# Altium schematic symbol library WCAP-ATLI.SchLib: 162 symbols (part 3 of 4)
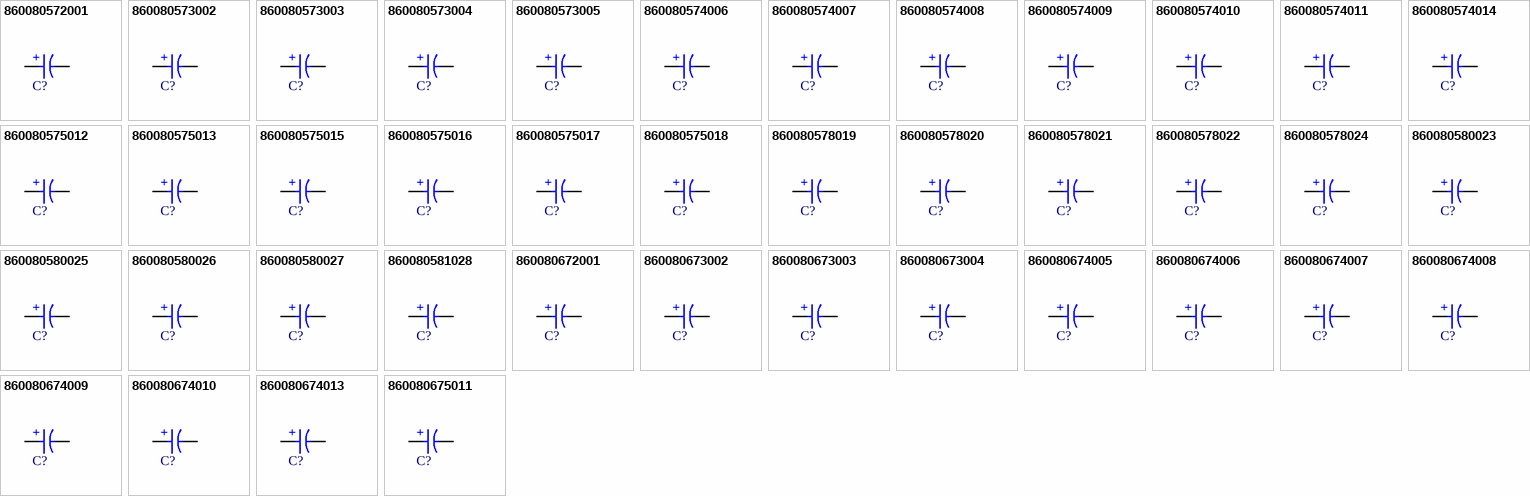
[diagram p6: symbols 860080572001 to 860080675011]

## 860080580023
designator C?, comment 1200µF  (value not drawn)
WCAP-ATLI Aluminum Electrolytic Capacitor, Radial, THT, D16 x H25mm, 1200µF, 35V; Manufacturer Part Number: 860080580023; Manufacturer: Wurth Elektronik; Capacitance Tolerance: +/-20%; Dissipation Factor: 9%; Endurance: 5000h; Leakage Current: 420µA; Ripple Current: 3150mA; Technical Reference: ATEK250122M035DSPAEE000; Category: Aluminum Electrolytic Capacitors; Match Code: WCAP-ATLI; ComponentLink1Description: Website Link; ComponentLink1URL: https://www.we-online.com/redexpert/article/860080580023?ad; ComponentLink2Description: Datasheet Link; ComponentLink2URL: https://www.we-online.com/redexpert/spec/860080580023?ad; Mount: Through Hole; Operating Temperature Max: 105°C; Operating Temperature Min: -55°C; Packaging: Ammo Pack; Height: 25mm; Diameter: 16mm; Capacitance: 1200µF; Rated Voltage (DC): 35V
footprint WCAP-ATLI_D16H25
simulation model 860080580023_1.2mF
pins: 1 P, 2 N
text: +

## 860080580025
designator C?, comment 1500µF  (value not drawn)
WCAP-ATLI Aluminum Electrolytic Capacitor, Radial, THT, D16 x H31.5mm, 1500µF, 35V; Manufacturer Part Number: 860080580025; Manufacturer: Wurth Elektronik; Capacitance Tolerance: +/-20%; Dissipation Factor: 9%; Endurance: 5000h; Leakage Current: 525µA; Ripple Current: 3600mA; Technical Reference: ATEK315152M035DSPADE000; Category: Aluminum Electrolytic Capacitors; Match Code: WCAP-ATLI; ComponentLink1Description: Website Link; ComponentLink1URL: https://www.we-online.com/redexpert/article/860080580025?ad; ComponentLink2Description: Datasheet Link; ComponentLink2URL: https://www.we-online.com/redexpert/spec/860080580025?ad; Mount: Through Hole; Operating Temperature Max: 105°C; Operating Temperature Min: -55°C; Packaging: Ammo Pack; Height: 31.5mm; Diameter: 16mm; Capacitance: 1500µF; Rated Voltage (DC): 35V
footprint WCAP-ATLI_D16H31.5
simulation model 860080580025_1.5mF
pins: 1 P, 2 N
text: +

## 860080580026
designator C?, comment 1800µF  (value not drawn)
WCAP-ATLI Aluminum Electrolytic Capacitor, Radial, THT, D16 x H31.5mm, 1800µF, 35V; Manufacturer Part Number: 860080580026; Manufacturer: Wurth Elektronik; Capacitance Tolerance: +/-20%; Dissipation Factor: 9%; Endurance: 5000h; Leakage Current: 630µA; Ripple Current: 3670mA; Technical Reference: ATEK315182M035DSPADE000; Category: Aluminum Electrolytic Capacitors; Match Code: WCAP-ATLI; ComponentLink1Description: Website Link; ComponentLink1URL: https://www.we-online.com/redexpert/article/860080580026?ad; ComponentLink2Description: Datasheet Link; ComponentLink2URL: https://www.we-online.com/redexpert/spec/860080580026?ad; Mount: Through Hole; Operating Temperature Max: 105°C; Operating Temperature Min: -55°C; Packaging: Ammo Pack; Height: 31.5mm; Diameter: 16mm; Capacitance: 1800µF; Rated Voltage (DC): 35V
footprint WCAP-ATLI_D16H31.5
simulation model 860080580026_1.8mF
pins: 1 P, 2 N
text: +

## 860080580027
designator C?, comment 2200µF  (value not drawn)
WCAP-ATLI Aluminum Electrolytic Capacitor, Radial, THT, D16 x H35.5mm, 2200µF, 35V; Manufacturer Part Number: 860080580027; Manufacturer: Wurth Elektronik; Capacitance Tolerance: +/-20%; Dissipation Factor: 9%; Endurance: 5000h; Leakage Current: 770µA; Ripple Current: 3750mA; Technical Reference: ATEK355222M035DSPADE000; Category: Aluminum Electrolytic Capacitors; Match Code: WCAP-ATLI; ComponentLink1Description: Website Link; ComponentLink1URL: https://www.we-online.com/redexpert/article/860080580027?ad; ComponentLink2Description: Datasheet Link; ComponentLink2URL: https://www.we-online.com/redexpert/spec/860080580027?ad; Mount: Through Hole; Operating Temperature Max: 105°C; Operating Temperature Min: -55°C; Packaging: Ammo Pack; Height: 35.5mm; Diameter: 16mm; Capacitance: 2200µF; Rated Voltage (DC): 35V
footprint WCAP-ATLI_D16H35.5
simulation model 860080580027_2.2mF
pins: 1 P, 2 N
text: +

## 860080581028
designator C?, comment 2700µF  (value not drawn)
WCAP-ATLI Aluminum Electrolytic Capacitor, Radial, THT, D18 x H31.5mm, 2700µF, 35V; Manufacturer Part Number: 860080581028; Manufacturer: Wurth Elektronik; Capacitance Tolerance: +/-20%; Dissipation Factor: 9%; Endurance: 5000h; Leakage Current: 945µA; Ripple Current: 3850mA; Technical Reference: ATEL315272M035DSPAEE000; Category: Aluminum Electrolytic Capacitors; Match Code: WCAP-ATLI; ComponentLink1Description: Website Link; ComponentLink1URL: https://www.we-online.com/redexpert/article/860080581028?ad; ComponentLink2Description: Datasheet Link; ComponentLink2URL: https://www.we-online.com/redexpert/spec/860080581028?ad; Mount: Through Hole; Operating Temperature Max: 105°C; Operating Temperature Min: -55°C; Packaging: Ammo Pack; Height: 31.5mm; Diameter: 18mm; Capacitance: 2700µF; Rated Voltage (DC): 35V
footprint WCAP-ATLI_D18H31.5
simulation model 860080581028_2.7mF
pins: 1 P, 2 N
text: +

## 860080672001
designator C?, comment 22µF  (value not drawn)
WCAP-ATLI Aluminum Electrolytic Capacitor, Radial, THT, D5 x H11mm, 22µF, 50V; Manufacturer Part Number: 860080672001; Manufacturer: Wurth Elektronik; Capacitance Tolerance: +/-20%; Dissipation Factor: 8%; Endurance: 2000h; Leakage Current: 11µA; Ripple Current: 220mA; Technical Reference: ATEC110220M050DSPA3B000; Category: Aluminum Electrolytic Capacitors; Match Code: WCAP-ATLI; ComponentLink1Description: Website Link; ComponentLink1URL: https://www.we-online.com/redexpert/article/860080672001?ad; ComponentLink2Description: Datasheet Link; ComponentLink2URL: https://www.we-online.com/redexpert/spec/860080672001?ad; Mount: Through Hole; Operating Temperature Max: 105°C; Operating Temperature Min: -55°C; Packaging: Ammo Pack; Height: 11mm; Diameter: 5mm; Capacitance: 22µF; Rated Voltage (DC): 50V
footprint WCAP-ATLI_D5H11
simulation model 860080672001_22uF
pins: 1 P, 2 N
text: +

## 860080673002
designator C?, comment 27µF  (value not drawn)
WCAP-ATLI Aluminum Electrolytic Capacitor, Radial, THT, D6.3 x H11mm, 27µF, 50V; Manufacturer Part Number: 860080673002; Manufacturer: Wurth Elektronik; Capacitance Tolerance: +/-20%; Dissipation Factor: 8%; Endurance: 2000h; Leakage Current: 13.5µA; Ripple Current: 265mA; Technical Reference: ATED110270M050DSPA4B000; Category: Aluminum Electrolytic Capacitors; Match Code: WCAP-ATLI; ComponentLink1Description: Website Link; ComponentLink1URL: https://www.we-online.com/redexpert/article/860080673002?ad; ComponentLink2Description: Datasheet Link; ComponentLink2URL: https://www.we-online.com/redexpert/spec/860080673002?ad; Mount: Through Hole; Operating Temperature Max: 105°C; Operating Temperature Min: -55°C; Packaging: Ammo Pack; Height: 11mm; Diameter: 6.3mm; Capacitance: 27µF; Rated Voltage (DC): 50V
footprint WCAP-ATLI_D6.3H11
simulation model 860080673002_27uF
pins: 1 P, 2 N
text: +

## 860080673003
designator C?, comment 33µF  (value not drawn)
WCAP-ATLI Aluminum Electrolytic Capacitor, Radial, THT, D6.3 x H11mm, 33µF, 50V; Manufacturer Part Number: 860080673003; Manufacturer: Wurth Elektronik; Capacitance Tolerance: +/-20%; Dissipation Factor: 8%; Endurance: 2000h; Leakage Current: 16.5µA; Ripple Current: 280mA; Technical Reference: ATED110330M050DSPA4B000; Category: Aluminum Electrolytic Capacitors; Match Code: WCAP-ATLI; ComponentLink1Description: Website Link; ComponentLink1URL: https://www.we-online.com/redexpert/article/860080673003?ad; ComponentLink2Description: Datasheet Link; ComponentLink2URL: https://www.we-online.com/redexpert/spec/860080673003?ad; Mount: Through Hole; Operating Temperature Max: 105°C; Operating Temperature Min: -55°C; Packaging: Ammo Pack; Height: 11mm; Diameter: 6.3mm; Capacitance: 33µF; Rated Voltage (DC): 50V
footprint WCAP-ATLI_D6.3H11
simulation model 860080673003_33uF
pins: 1 P, 2 N
text: +

## 860080673004
designator C?, comment 39µF  (value not drawn)
WCAP-ATLI Aluminum Electrolytic Capacitor, Radial, THT, D6.3 x H11mm, 39µF, 50V; Manufacturer Part Number: 860080673004; Manufacturer: Wurth Elektronik; Capacitance Tolerance: +/-20%; Dissipation Factor: 8%; Endurance: 2000h; Leakage Current: 19.5µA; Ripple Current: 300mA; Technical Reference: ATED110390M050DSPA4B000; Category: Aluminum Electrolytic Capacitors; Match Code: WCAP-ATLI; ComponentLink1Description: Website Link; ComponentLink1URL: https://www.we-online.com/redexpert/article/860080673004?ad; ComponentLink2Description: Datasheet Link; ComponentLink2URL: https://www.we-online.com/redexpert/spec/860080673004?ad; Mount: Through Hole; Operating Temperature Max: 105°C; Operating Temperature Min: -55°C; Packaging: Ammo Pack; Height: 11mm; Diameter: 6.3mm; Capacitance: 39µF; Rated Voltage (DC): 50V
footprint WCAP-ATLI_D6.3H11
simulation model 860080673004_39uF
pins: 1 P, 2 N
text: +

## 860080674005
designator C?, comment 47µF  (value not drawn)
WCAP-ATLI Aluminum Electrolytic Capacitor, Radial, THT, D8 x H11.5mm, 47µF, 50V; Manufacturer Part Number: 860080674005; Manufacturer: Wurth Elektronik; Capacitance Tolerance: +/-20%; Dissipation Factor: 8%; Endurance: 3000h; Leakage Current: 23.5µA; Ripple Current: 360mA; Technical Reference: ATEE115470M050DSPA7C000; Category: Aluminum Electrolytic Capacitors; Match Code: WCAP-ATLI; ComponentLink1Description: Website Link; ComponentLink1URL: https://www.we-online.com/redexpert/article/860080674005?ad; ComponentLink2Description: Datasheet Link; ComponentLink2URL: https://www.we-online.com/redexpert/spec/860080674005?ad; Mount: Through Hole; Operating Temperature Max: 105°C; Operating Temperature Min: -55°C; Packaging: Ammo Pack; Height: 11.5mm; Diameter: 8mm; Capacitance: 47µF; Rated Voltage (DC): 50V
footprint WCAP-ATLI_D8H11.5
simulation model 860080674005_47uF
pins: 1 P, 2 N
text: +

## 860080674006
designator C?, comment 56µF  (value not drawn)
WCAP-ATLI Aluminum Electrolytic Capacitor, Radial, THT, D8 x H11.5mm, 56µF, 50V; Manufacturer Part Number: 860080674006; Manufacturer: Wurth Elektronik; Capacitance Tolerance: +/-20%; Dissipation Factor: 8%; Endurance: 3000h; Leakage Current: 28µA; Ripple Current: 375mA; Technical Reference: ATEE115560M050DSPA7C000; Category: Aluminum Electrolytic Capacitors; Match Code: WCAP-ATLI; ComponentLink1Description: Website Link; ComponentLink1URL: https://www.we-online.com/redexpert/article/860080674006?ad; ComponentLink2Description: Datasheet Link; ComponentLink2URL: https://www.we-online.com/redexpert/spec/860080674006?ad; Mount: Through Hole; Operating Temperature Max: 105°C; Operating Temperature Min: -55°C; Packaging: Ammo Pack; Height: 11.5mm; Diameter: 8mm; Capacitance: 56µF; Rated Voltage (DC): 50V
footprint WCAP-ATLI_D8H11.5
simulation model 860080674006_56uF
pins: 1 P, 2 N
text: +

## 860080674007
designator C?, comment 68µF  (value not drawn)
WCAP-ATLI Aluminum Electrolytic Capacitor, Radial, THT, D8 x H11.5mm, 68µF, 50V; Manufacturer Part Number: 860080674007; Manufacturer: Wurth Elektronik; Capacitance Tolerance: +/-20%; Dissipation Factor: 8%; Endurance: 3000h; Leakage Current: 34µA; Ripple Current: 400mA; Technical Reference: ATEE115680M050DSPA7C000; Category: Aluminum Electrolytic Capacitors; Match Code: WCAP-ATLI; ComponentLink1Description: Website Link; ComponentLink1URL: https://www.we-online.com/redexpert/article/860080674007?ad; ComponentLink2Description: Datasheet Link; ComponentLink2URL: https://www.we-online.com/redexpert/spec/860080674007?ad; Mount: Through Hole; Operating Temperature Max: 105°C; Operating Temperature Min: -55°C; Packaging: Ammo Pack; Height: 11.5mm; Diameter: 8mm; Capacitance: 68µF; Rated Voltage (DC): 50V
footprint WCAP-ATLI_D8H11.5
simulation model 860080674007_68uF
pins: 1 P, 2 N
text: +

## 860080674008
designator C?, comment 82µF  (value not drawn)
WCAP-ATLI Aluminum Electrolytic Capacitor, Radial, THT, D8 x H11.5mm, 82µF, 50V; Manufacturer Part Number: 860080674008; Manufacturer: Wurth Elektronik; Capacitance Tolerance: +/-20%; Dissipation Factor: 8%; Endurance: 3000h; Leakage Current: 41µA; Ripple Current: 550mA; Technical Reference: ATEE115820M050DSPA7C000; Category: Aluminum Electrolytic Capacitors; Match Code: WCAP-ATLI; ComponentLink1Description: Website Link; ComponentLink1URL: https://www.we-online.com/redexpert/article/860080674008?ad; ComponentLink2Description: Datasheet Link; ComponentLink2URL: https://www.we-online.com/redexpert/spec/860080674008?ad; Mount: Through Hole; Operating Temperature Max: 105°C; Operating Temperature Min: -55°C; Packaging: Ammo Pack; Height: 11.5mm; Diameter: 8mm; Capacitance: 82µF; Rated Voltage (DC): 50V
footprint WCAP-ATLI_D8H11.5
simulation model 860080674008_82uF
pins: 1 P, 2 N
text: +

## 860080674009
designator C?, comment 100µF  (value not drawn)
WCAP-ATLI Aluminum Electrolytic Capacitor, Radial, THT, D8 x H11.5mm, 100µF, 50V; Manufacturer Part Number: 860080674009; Manufacturer: Wurth Elektronik; Capacitance Tolerance: +/-20%; Dissipation Factor: 8%; Endurance: 3000h; Leakage Current: 50µA; Ripple Current: 730mA; Technical Reference: ATEE115101M050DSPA7C000; Category: Aluminum Electrolytic Capacitors; Match Code: WCAP-ATLI; ComponentLink1Description: Website Link; ComponentLink1URL: https://www.we-online.com/redexpert/article/860080674009?ad; ComponentLink2Description: Datasheet Link; ComponentLink2URL: https://www.we-online.com/redexpert/spec/860080674009?ad; Mount: Through Hole; Operating Temperature Max: 105°C; Operating Temperature Min: -55°C; Packaging: Ammo Pack; Height: 11.5mm; Diameter: 8mm; Capacitance: 100µF; Rated Voltage (DC): 50V
footprint WCAP-ATLI_D8H11.5
simulation model 860080674009_100uF
pins: 1 P, 2 N
text: +

## 860080674010
designator C?, comment 120µF  (value not drawn)
WCAP-ATLI Aluminum Electrolytic Capacitor, Radial, THT, D8 x H16mm, 120µF, 50V; Manufacturer Part Number: 860080674010; Manufacturer: Wurth Elektronik; Capacitance Tolerance: +/-20%; Dissipation Factor: 8%; Endurance: 3000h; Leakage Current: 60µA; Ripple Current: 770mA; Technical Reference: ATEE160121M050DSPA7C000; Category: Aluminum Electrolytic Capacitors; Match Code: WCAP-ATLI; ComponentLink1Description: Website Link; ComponentLink1URL: https://www.we-online.com/redexpert/article/860080674010?ad; ComponentLink2Description: Datasheet Link; ComponentLink2URL: https://www.we-online.com/redexpert/spec/860080674010?ad; Mount: Through Hole; Operating Temperature Max: 105°C; Operating Temperature Min: -55°C; Packaging: Ammo Pack; Height: 16mm; Diameter: 8mm; Capacitance: 120µF; Rated Voltage (DC): 50V
footprint WCAP-ATLI_D8H16
simulation model 860080674010_120uF
pins: 1 P, 2 N
text: +

## 860080674013
designator C?, comment 180µF  (value not drawn)
WCAP-ATLI Aluminum Electrolytic Capacitor, Radial, THT, D8 x H20mm, 180µF, 50V; Manufacturer Part Number: 860080674013; Manufacturer: Wurth Elektronik; Capacitance Tolerance: +/-20%; Dissipation Factor: 8%; Endurance: 3000h; Leakage Current: 90µA; Ripple Current: 1060mA; Technical Reference: ATEE200181M050DSPA7C000; Category: Aluminum Electrolytic Capacitors; Match Code: WCAP-ATLI; ComponentLink1Description: Website Link; ComponentLink1URL: https://www.we-online.com/redexpert/article/860080674013?ad; ComponentLink2Description: Datasheet Link; ComponentLink2URL: https://www.we-online.com/redexpert/spec/860080674013?ad; Mount: Through Hole; Operating Temperature Max: 105°C; Operating Temperature Min: -55°C; Packaging: Ammo Pack; Height: 20mm; Diameter: 8mm; Capacitance: 180µF; Rated Voltage (DC): 50V
footprint WCAP-ATLI_D8H20
simulation model 860080674013_180uF
pins: 1 P, 2 N
text: +

## 860080675011
designator C?, comment 120µF  (value not drawn)
WCAP-ATLI Aluminum Electrolytic Capacitor, Radial, THT, D10 x H12.5mm, 120µF, 50V; Manufacturer Part Number: 860080675011; Manufacturer: Wurth Elektronik; Capacitance Tolerance: +/-20%; Dissipation Factor: 8%; Endurance: 5000h; Leakage Current: 60µA; Ripple Current: 790mA; Technical Reference: ATEF125121M050DSPA9E000; Category: Aluminum Electrolytic Capacitors; Match Code: WCAP-ATLI; ComponentLink1Description: Website Link; ComponentLink1URL: https://www.we-online.com/redexpert/article/860080675011?ad; ComponentLink2Description: Datasheet Link; ComponentLink2URL: https://www.we-online.com/redexpert/spec/860080675011?ad; Mount: Through Hole; Operating Temperature Max: 105°C; Operating Temperature Min: -55°C; Packaging: Ammo Pack; Height: 12.5mm; Diameter: 10mm; Capacitance: 120µF; Rated Voltage (DC): 50V
footprint WCAP-ATLI_D10H12.5
simulation model 860080675011_120uF
pins: 1 P, 2 N
text: +

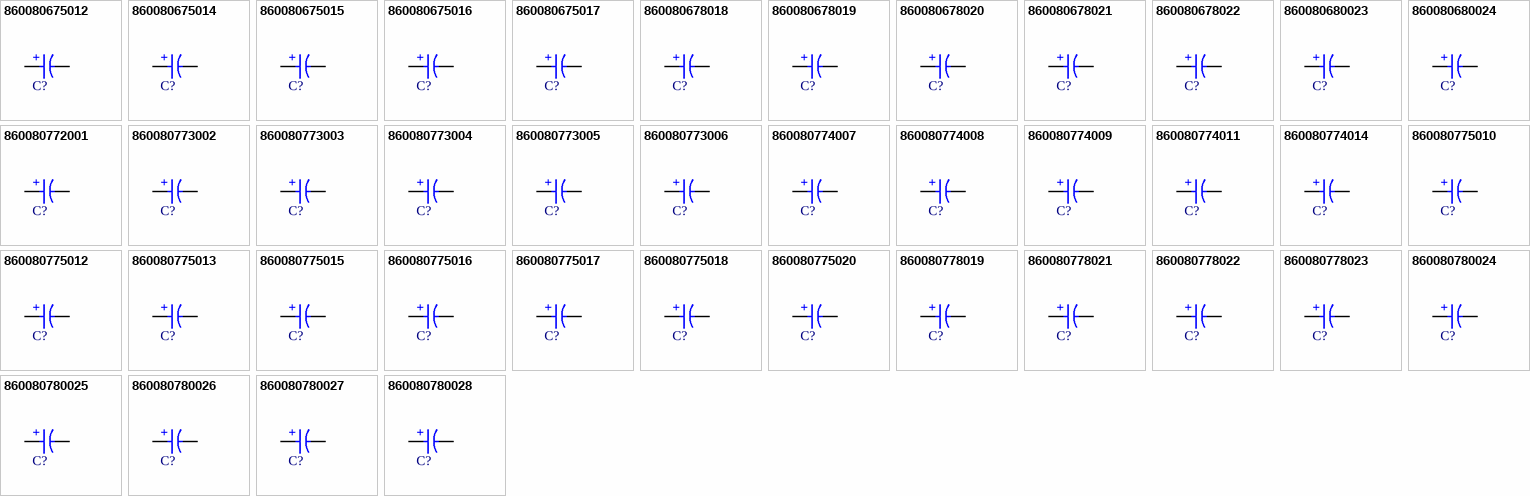
[diagram p3: symbols 860080675012 to 860080780028]

## 860080675012
designator C?, comment 150µF  (value not drawn)
WCAP-ATLI Aluminum Electrolytic Capacitor, Radial, THT, D10 x H12.5mm, 150µF, 50V; Manufacturer Part Number: 860080675012; Manufacturer: Wurth Elektronik; Capacitance Tolerance: +/-20%; Dissipation Factor: 8%; Endurance: 5000h; Leakage Current: 75µA; Ripple Current: 870mA; Technical Reference: ATEF125151M050DSPA9E000; Category: Aluminum Electrolytic Capacitors; Match Code: WCAP-ATLI; ComponentLink1Description: Website Link; ComponentLink1URL: https://www.we-online.com/redexpert/article/860080675012?ad; ComponentLink2Description: Datasheet Link; ComponentLink2URL: https://www.we-online.com/redexpert/spec/860080675012?ad; Mount: Through Hole; Operating Temperature Max: 105°C; Operating Temperature Min: -55°C; Packaging: Ammo Pack; Height: 12.5mm; Diameter: 10mm; Capacitance: 150µF; Rated Voltage (DC): 50V
footprint WCAP-ATLI_D10H12.5
simulation model 860080675012_150uF
pins: 1 P, 2 N
text: +

## 860080675014
designator C?, comment 180µF  (value not drawn)
WCAP-ATLI Aluminum Electrolytic Capacitor, Radial, THT, D10 x H16mm, 180µF, 50V; Manufacturer Part Number: 860080675014; Manufacturer: Wurth Elektronik; Capacitance Tolerance: +/-20%; Dissipation Factor: 8%; Endurance: 5000h; Leakage Current: 90µA; Ripple Current: 1090mA; Technical Reference: ATEF160181M050DSPAAE000; Category: Aluminum Electrolytic Capacitors; Match Code: WCAP-ATLI; ComponentLink1Description: Website Link; ComponentLink1URL: https://www.we-online.com/redexpert/article/860080675014?ad; ComponentLink2Description: Datasheet Link; ComponentLink2URL: https://www.we-online.com/redexpert/spec/860080675014?ad; Mount: Through Hole; Operating Temperature Max: 105°C; Operating Temperature Min: -55°C; Packaging: Ammo Pack; Height: 16mm; Diameter: 10mm; Capacitance: 180µF; Rated Voltage (DC): 50V
footprint WCAP-ATLI_D10H16
simulation model 860080675014_180uF
pins: 1 P, 2 N
text: +

## 860080675015
designator C?, comment 220µF  (value not drawn)
WCAP-ATLI Aluminum Electrolytic Capacitor, Radial, THT, D10 x H16mm, 220µF, 50V; Manufacturer Part Number: 860080675015; Manufacturer: Wurth Elektronik; Capacitance Tolerance: +/-20%; Dissipation Factor: 8%; Endurance: 5000h; Leakage Current: 110µA; Ripple Current: 1385mA; Technical Reference: ATEF160221M050DSPAAE000; Category: Aluminum Electrolytic Capacitors; Match Code: WCAP-ATLI; ComponentLink1Description: Website Link; ComponentLink1URL: https://www.we-online.com/redexpert/article/860080675015?ad; ComponentLink2Description: Datasheet Link; ComponentLink2URL: https://www.we-online.com/redexpert/spec/860080675015?ad; Mount: Through Hole; Operating Temperature Max: 105°C; Operating Temperature Min: -55°C; Packaging: Ammo Pack; Height: 16mm; Diameter: 10mm; Capacitance: 220µF; Rated Voltage (DC): 50V
footprint WCAP-ATLI_D10H16
simulation model 860080675015_220uF
pins: 1 P, 2 N
text: +

## 860080675016
designator C?, comment 270µF  (value not drawn)
WCAP-ATLI Aluminum Electrolytic Capacitor, Radial, THT, D10 x H20mm, 270µF, 50V; Manufacturer Part Number: 860080675016; Manufacturer: Wurth Elektronik; Capacitance Tolerance: +/-20%; Dissipation Factor: 8%; Endurance: 5000h; Leakage Current: 135µA; Ripple Current: 1500mA; Technical Reference: ATEF200271M050DSPAAE000; Category: Aluminum Electrolytic Capacitors; Match Code: WCAP-ATLI; ComponentLink1Description: Website Link; ComponentLink1URL: https://www.we-online.com/redexpert/article/860080675016?ad; ComponentLink2Description: Datasheet Link; ComponentLink2URL: https://www.we-online.com/redexpert/spec/860080675016?ad; Mount: Through Hole; Operating Temperature Max: 105°C; Operating Temperature Min: -55°C; Packaging: Ammo Pack; Height: 20mm; Diameter: 10mm; Capacitance: 270µF; Rated Voltage (DC): 50V
footprint WCAP-ATLI_D10H20
simulation model 860080675016_270uF
pins: 1 P, 2 N
text: +

## 860080675017
designator C?, comment 330µF  (value not drawn)
WCAP-ATLI Aluminum Electrolytic Capacitor, Radial, THT, D10 x H25mm, 330µF, 50V; Manufacturer Part Number: 860080675017; Manufacturer: Wurth Elektronik; Capacitance Tolerance: +/-20%; Dissipation Factor: 8%; Endurance: 5000h; Leakage Current: 165µA; Ripple Current: 1850mA; Technical Reference: ATEF250331M050DSPAAE000; Category: Aluminum Electrolytic Capacitors; Match Code: WCAP-ATLI; ComponentLink1Description: Website Link; ComponentLink1URL: https://www.we-online.com/redexpert/article/860080675017?ad; ComponentLink2Description: Datasheet Link; ComponentLink2URL: https://www.we-online.com/redexpert/spec/860080675017?ad; Mount: Through Hole; Operating Temperature Max: 105°C; Operating Temperature Min: -55°C; Packaging: Ammo Pack; Height: 25mm; Diameter: 10mm; Capacitance: 330µF; Rated Voltage (DC): 50V
footprint WCAP-ATLI_D10H25
simulation model 860080675017_330uF
pins: 1 P, 2 N
text: +

## 860080678018
designator C?, comment 390µF  (value not drawn)
WCAP-ATLI Aluminum Electrolytic Capacitor, Radial, THT, D13 x H20mm, 390µF, 50V; Manufacturer Part Number: 860080678018; Manufacturer: Wurth Elektronik; Capacitance Tolerance: +/-20%; Dissipation Factor: 8%; Endurance: 5000h; Leakage Current: 195µA; Ripple Current: 1910mA; Technical Reference: ATEI200391M050DSPACE000; Category: Aluminum Electrolytic Capacitors; Match Code: WCAP-ATLI; ComponentLink1Description: Website Link; ComponentLink1URL: https://www.we-online.com/redexpert/article/860080678018?ad; ComponentLink2Description: Datasheet Link; ComponentLink2URL: https://www.we-online.com/redexpert/spec/860080678018?ad; Mount: Through Hole; Operating Temperature Max: 105°C; Operating Temperature Min: -55°C; Packaging: Ammo Pack; Height: 20mm; Diameter: 13mm; Capacitance: 390µF; Rated Voltage (DC): 50V
footprint WCAP-ATLI_D13H20
simulation model 860080678018_390uF
pins: 1 P, 2 N
text: +

## 860080678019
designator C?, comment 470µF  (value not drawn)
WCAP-ATLI Aluminum Electrolytic Capacitor, Radial, THT, D13 x H20mm, 470µF, 50V; Manufacturer Part Number: 860080678019; Manufacturer: Wurth Elektronik; Capacitance Tolerance: +/-20%; Dissipation Factor: 8%; Endurance: 5000h; Leakage Current: 235µA; Ripple Current: 2000mA; Technical Reference: ATEI200471M050DSPACE000; Category: Aluminum Electrolytic Capacitors; Match Code: WCAP-ATLI; ComponentLink1Description: Website Link; ComponentLink1URL: https://www.we-online.com/redexpert/article/860080678019?ad; ComponentLink2Description: Datasheet Link; ComponentLink2URL: https://www.we-online.com/redexpert/spec/860080678019?ad; Mount: Through Hole; Operating Temperature Max: 105°C; Operating Temperature Min: -55°C; Packaging: Ammo Pack; Height: 20mm; Diameter: 13mm; Capacitance: 470µF; Rated Voltage (DC): 50V
footprint WCAP-ATLI_D13H20
simulation model 860080678019_470uF
pins: 1 P, 2 N
text: +

## 860080678020
designator C?, comment 560µF  (value not drawn)
WCAP-ATLI Aluminum Electrolytic Capacitor, Radial, THT, D13 x H20mm, 560µF, 50V; Manufacturer Part Number: 860080678020; Manufacturer: Wurth Elektronik; Capacitance Tolerance: +/-20%; Dissipation Factor: 8%; Endurance: 5000h; Leakage Current: 280µA; Ripple Current: 2150mA; Technical Reference: ATEI200561M050DSPACE000; Category: Aluminum Electrolytic Capacitors; Match Code: WCAP-ATLI; ComponentLink1Description: Website Link; ComponentLink1URL: https://www.we-online.com/redexpert/article/860080678020?ad; ComponentLink2Description: Datasheet Link; ComponentLink2URL: https://www.we-online.com/redexpert/spec/860080678020?ad; Mount: Through Hole; Operating Temperature Max: 105°C; Operating Temperature Min: -55°C; Packaging: Ammo Pack; Height: 20mm; Diameter: 13mm; Capacitance: 560µF; Rated Voltage (DC): 50V
footprint WCAP-ATLI_D13H20
simulation model 860080678020_560uF
pins: 1 P, 2 N
text: +

## 860080678021
designator C?, comment 680µF  (value not drawn)
WCAP-ATLI Aluminum Electrolytic Capacitor, Radial, THT, D13 x H25mm, 680µF, 50V; Manufacturer Part Number: 860080678021; Manufacturer: Wurth Elektronik; Capacitance Tolerance: +/-20%; Dissipation Factor: 8%; Endurance: 5000h; Leakage Current: 340µA; Ripple Current: 2490mA; Technical Reference: ATEI250681M050DSPACE000; Category: Aluminum Electrolytic Capacitors; Match Code: WCAP-ATLI; ComponentLink1Description: Website Link; ComponentLink1URL: https://www.we-online.com/redexpert/article/860080678021?ad; ComponentLink2Description: Datasheet Link; ComponentLink2URL: https://www.we-online.com/redexpert/spec/860080678021?ad; Mount: Through Hole; Operating Temperature Max: 105°C; Operating Temperature Min: -55°C; Packaging: Ammo Pack; Height: 25mm; Diameter: 13mm; Capacitance: 680µF; Rated Voltage (DC): 50V
footprint WCAP-ATLI_D13H25
simulation model 860080678021_680uF
pins: 1 P, 2 N
text: +

## 860080678022
designator C?, comment 820µF  (value not drawn)
WCAP-ATLI Aluminum Electrolytic Capacitor, Radial, THT, D13 x H30mm, 820µF, 50V; Manufacturer Part Number: 860080678022; Manufacturer: Wurth Elektronik; Capacitance Tolerance: +/-20%; Dissipation Factor: 8%; Endurance: 5000h; Leakage Current: 410µA; Ripple Current: 2770mA; Technical Reference: ATEI300821M050DSPACE000; Category: Aluminum Electrolytic Capacitors; Match Code: WCAP-ATLI; ComponentLink1Description: Website Link; ComponentLink1URL: https://www.we-online.com/redexpert/article/860080678022?ad; ComponentLink2Description: Datasheet Link; ComponentLink2URL: https://www.we-online.com/redexpert/spec/860080678022?ad; Mount: Through Hole; Operating Temperature Max: 105°C; Operating Temperature Min: -55°C; Packaging: Ammo Pack; Height: 30mm; Diameter: 13mm; Capacitance: 820µF; Rated Voltage (DC): 50V
footprint WCAP-ATLI_D13H30
simulation model 860080678022_820uF
pins: 1 P, 2 N
text: +

## 860080680023
designator C?, comment 820µF  (value not drawn)
WCAP-ATLI Aluminum Electrolytic Capacitor, Radial, THT, D16 x H25mm, 820µF, 50V; Manufacturer Part Number: 860080680023; Manufacturer: Wurth Elektronik; Capacitance Tolerance: +/-20%; Dissipation Factor: 8%; Endurance: 5000h; Leakage Current: 410µA; Ripple Current: 2960mA; Technical Reference: ATEK250821M050DSPAEE000; Category: Aluminum Electrolytic Capacitors; Match Code: WCAP-ATLI; ComponentLink1Description: Website Link; ComponentLink1URL: https://www.we-online.com/redexpert/article/860080680023?ad; ComponentLink2Description: Datasheet Link; ComponentLink2URL: https://www.we-online.com/redexpert/spec/860080680023?ad; Mount: Through Hole; Operating Temperature Max: 105°C; Operating Temperature Min: -55°C; Packaging: Ammo Pack; Height: 25mm; Diameter: 16mm; Capacitance: 820µF; Rated Voltage (DC): 50V
footprint WCAP-ATLI_D16H25
simulation model 860080680023_820uF
pins: 1 P, 2 N
text: +

## 860080680024
designator C?, comment 1000µF  (value not drawn)
WCAP-ATLI Aluminum Electrolytic Capacitor, Radial, THT, D16 x H25mm, 1000µF, 50V; Manufacturer Part Number: 860080680024; Manufacturer: Wurth Elektronik; Capacitance Tolerance: +/-20%; Dissipation Factor: 8%; Endurance: 5000h; Leakage Current: 500µA; Ripple Current: 3000mA; Technical Reference: ATEK250102M050DSPAEE000; Category: Aluminum Electrolytic Capacitors; Match Code: WCAP-ATLI; ComponentLink1Description: Website Link; ComponentLink1URL: https://www.we-online.com/redexpert/article/860080680024?ad; ComponentLink2Description: Datasheet Link; ComponentLink2URL: https://www.we-online.com/redexpert/spec/860080680024?ad; Mount: Through Hole; Operating Temperature Max: 105°C; Operating Temperature Min: -55°C; Packaging: Ammo Pack; Height: 25mm; Diameter: 16mm; Capacitance: 1000µF; Rated Voltage (DC): 50V
footprint WCAP-ATLI_D16H25
simulation model 860080680024_1mF
pins: 1 P, 2 N
text: +

## 860080772001
designator C?, comment 10µF  (value not drawn)
WCAP-ATLI Aluminum Electrolytic Capacitor, Radial, THT, D5 x H11mm, 10µF, 63V; Manufacturer Part Number: 860080772001; Manufacturer: Wurth Elektronik; Capacitance Tolerance: +/-20%; Dissipation Factor: 8%; Endurance: 2000h; Leakage Current: 6.3µA; Ripple Current: 135mA; Technical Reference: ATEC110100M063DSPA3B000; Category: Aluminum Electrolytic Capacitors; Match Code: WCAP-ATLI; ComponentLink1Description: Website Link; ComponentLink1URL: https://www.we-online.com/redexpert/article/860080772001?ad; ComponentLink2Description: Datasheet Link; ComponentLink2URL: https://www.we-online.com/redexpert/spec/860080772001?ad; Mount: Through Hole; Operating Temperature Max: 105°C; Operating Temperature Min: -55°C; Packaging: Ammo Pack; Height: 11mm; Diameter: 5mm; Capacitance: 10µF; Rated Voltage (DC): 63V
footprint WCAP-ATLI_D5H11
simulation model 860080772001_10uF
pins: 1 P, 2 N
text: +

## 860080773002
designator C?, comment 15µF  (value not drawn)
WCAP-ATLI Aluminum Electrolytic Capacitor, Radial, THT, D6.3 x H11mm, 15µF, 63V; Manufacturer Part Number: 860080773002; Manufacturer: Wurth Elektronik; Capacitance Tolerance: +/-20%; Dissipation Factor: 8%; Endurance: 2000h; Leakage Current: 9.45µA; Ripple Current: 168mA; Technical Reference: ATED110150M063DSPA4B000; Category: Aluminum Electrolytic Capacitors; Match Code: WCAP-ATLI; ComponentLink1Description: Website Link; ComponentLink1URL: https://www.we-online.com/redexpert/article/860080773002?ad; ComponentLink2Description: Datasheet Link; ComponentLink2URL: https://www.we-online.com/redexpert/spec/860080773002?ad; Mount: Through Hole; Operating Temperature Max: 105°C; Operating Temperature Min: -55°C; Packaging: Ammo Pack; Height: 11mm; Diameter: 6.3mm; Capacitance: 15µF; Rated Voltage (DC): 63V
footprint WCAP-ATLI_D6.3H11
simulation model 860080773002_15uF
pins: 1 P, 2 N
text: +

## 860080773003
designator C?, comment 18µF  (value not drawn)
WCAP-ATLI Aluminum Electrolytic Capacitor, Radial, THT, D6.3 x H11mm, 18µF, 63V; Manufacturer Part Number: 860080773003; Manufacturer: Wurth Elektronik; Capacitance Tolerance: +/-20%; Dissipation Factor: 8%; Endurance: 2000h; Leakage Current: 11.34µA; Ripple Current: 170mA; Technical Reference: ATED110180M063DSPA4B000; Category: Aluminum Electrolytic Capacitors; Match Code: WCAP-ATLI; ComponentLink1Description: Website Link; ComponentLink1URL: https://www.we-online.com/redexpert/article/860080773003?ad; ComponentLink2Description: Datasheet Link; ComponentLink2URL: https://www.we-online.com/redexpert/spec/860080773003?ad; Mount: Through Hole; Operating Temperature Max: 105°C; Operating Temperature Min: -55°C; Packaging: Ammo Pack; Height: 11mm; Diameter: 6.3mm; Capacitance: 18µF; Rated Voltage (DC): 63V
footprint WCAP-ATLI_D6.3H11
simulation model 860080773003_18uF
pins: 1 P, 2 N
text: +

## 860080773004
designator C?, comment 22µF  (value not drawn)
WCAP-ATLI Aluminum Electrolytic Capacitor, Radial, THT, D6.3 x H11mm, 22µF, 63V; Manufacturer Part Number: 860080773004; Manufacturer: Wurth Elektronik; Capacitance Tolerance: +/-20%; Dissipation Factor: 8%; Endurance: 2000h; Leakage Current: 13.86µA; Ripple Current: 250mA; Technical Reference: ATED110220M063DSPA4B000; Category: Aluminum Electrolytic Capacitors; Match Code: WCAP-ATLI; ComponentLink1Description: Website Link; ComponentLink1URL: https://www.we-online.com/redexpert/article/860080773004?ad; ComponentLink2Description: Datasheet Link; ComponentLink2URL: https://www.we-online.com/redexpert/spec/860080773004?ad; Mount: Through Hole; Operating Temperature Max: 105°C; Operating Temperature Min: -55°C; Packaging: Ammo Pack; Height: 11mm; Diameter: 6.3mm; Capacitance: 22µF; Rated Voltage (DC): 63V
footprint WCAP-ATLI_D6.3H11
simulation model 860080773004_22uF
pins: 1 P, 2 N
text: +

## 860080773005
designator C?, comment 27µF  (value not drawn)
WCAP-ATLI Aluminum Electrolytic Capacitor, Radial, THT, D6.3 x H11mm, 27µF, 63V; Manufacturer Part Number: 860080773005; Manufacturer: Wurth Elektronik; Capacitance Tolerance: +/-20%; Dissipation Factor: 8%; Endurance: 2000h; Leakage Current: 17.01µA; Ripple Current: 260mA; Technical Reference: ATED110270M063DSPA4B000; Category: Aluminum Electrolytic Capacitors; Match Code: WCAP-ATLI; ComponentLink1Description: Website Link; ComponentLink1URL: https://www.we-online.com/redexpert/article/860080773005?ad; ComponentLink2Description: Datasheet Link; ComponentLink2URL: https://www.we-online.com/redexpert/spec/860080773005?ad; Mount: Through Hole; Operating Temperature Max: 105°C; Operating Temperature Min: -55°C; Packaging: Ammo Pack; Height: 11mm; Diameter: 6.3mm; Capacitance: 27µF; Rated Voltage (DC): 63V
footprint WCAP-ATLI_D6.3H11
simulation model 860080773005_27uF
pins: 1 P, 2 N
text: +

## 860080773006
designator C?, comment 33µF  (value not drawn)
WCAP-ATLI Aluminum Electrolytic Capacitor, Radial, THT, D6.3 x H11mm, 33µF, 63V; Manufacturer Part Number: 860080773006; Manufacturer: Wurth Elektronik; Capacitance Tolerance: +/-20%; Dissipation Factor: 8%; Endurance: 2000h; Leakage Current: 20.79µA; Ripple Current: 270mA; Technical Reference: ATED110330M063DSPA4B000; Category: Aluminum Electrolytic Capacitors; Match Code: WCAP-ATLI; ComponentLink1Description: Website Link; ComponentLink1URL: https://www.we-online.com/redexpert/article/860080773006?ad; ComponentLink2Description: Datasheet Link; ComponentLink2URL: https://www.we-online.com/redexpert/spec/860080773006?ad; Mount: Through Hole; Operating Temperature Max: 105°C; Operating Temperature Min: -55°C; Packaging: Ammo Pack; Height: 11mm; Diameter: 6.3mm; Capacitance: 33µF; Rated Voltage (DC): 63V
footprint WCAP-ATLI_D6.3H11
simulation model 860080773006_33uF
pins: 1 P, 2 N
text: +

## 860080774007
designator C?, comment 39µF  (value not drawn)
WCAP-ATLI Aluminum Electrolytic Capacitor, Radial, THT, D8 x H11.5mm, 39µF, 63V; Manufacturer Part Number: 860080774007; Manufacturer: Wurth Elektronik; Capacitance Tolerance: +/-20%; Dissipation Factor: 8%; Endurance: 3000h; Leakage Current: 24.57µA; Ripple Current: 320mA; Technical Reference: ATEE115390M063DSPA7C000; Category: Aluminum Electrolytic Capacitors; Match Code: WCAP-ATLI; ComponentLink1Description: Website Link; ComponentLink1URL: https://www.we-online.com/redexpert/article/860080774007?ad; ComponentLink2Description: Datasheet Link; ComponentLink2URL: https://www.we-online.com/redexpert/spec/860080774007?ad; Mount: Through Hole; Operating Temperature Max: 105°C; Operating Temperature Min: -55°C; Packaging: Ammo Pack; Height: 11.5mm; Diameter: 8mm; Capacitance: 39µF; Rated Voltage (DC): 63V
footprint WCAP-ATLI_D8H11.5
simulation model 860080774007_39uF
pins: 1 P, 2 N
text: +

## 860080774008
designator C?, comment 47µF  (value not drawn)
WCAP-ATLI Aluminum Electrolytic Capacitor, Radial, THT, D8 x H11.5mm, 47µF, 63V; Manufacturer Part Number: 860080774008; Manufacturer: Wurth Elektronik; Capacitance Tolerance: +/-20%; Dissipation Factor: 8%; Endurance: 3000h; Leakage Current: 29.61µA; Ripple Current: 400mA; Technical Reference: ATEE115470M063DSPA7C000; Category: Aluminum Electrolytic Capacitors; Match Code: WCAP-ATLI; ComponentLink1Description: Website Link; ComponentLink1URL: https://www.we-online.com/redexpert/article/860080774008?ad; ComponentLink2Description: Datasheet Link; ComponentLink2URL: https://www.we-online.com/redexpert/spec/860080774008?ad; Mount: Through Hole; Operating Temperature Max: 105°C; Operating Temperature Min: -55°C; Packaging: Ammo Pack; Height: 11.5mm; Diameter: 8mm; Capacitance: 47µF; Rated Voltage (DC): 63V
footprint WCAP-ATLI_D8H11.5
simulation model 860080774008_47uF
pins: 1 P, 2 N
text: +

## 860080774009
designator C?, comment 56µF  (value not drawn)
WCAP-ATLI Aluminum Electrolytic Capacitor, Radial, THT, D8 x H11.5mm, 56µF, 63V; Manufacturer Part Number: 860080774009; Manufacturer: Wurth Elektronik; Capacitance Tolerance: +/-20%; Dissipation Factor: 8%; Endurance: 3000h; Leakage Current: 35.28µA; Ripple Current: 420mA; Technical Reference: ATEE115560M063DSPA7C000; Category: Aluminum Electrolytic Capacitors; Match Code: WCAP-ATLI; ComponentLink1Description: Website Link; ComponentLink1URL: https://www.we-online.com/redexpert/article/860080774009?ad; ComponentLink2Description: Datasheet Link; ComponentLink2URL: https://www.we-online.com/redexpert/spec/860080774009?ad; Mount: Through Hole; Operating Temperature Max: 105°C; Operating Temperature Min: -55°C; Packaging: Ammo Pack; Height: 11.5mm; Diameter: 8mm; Capacitance: 56µF; Rated Voltage (DC): 63V
footprint WCAP-ATLI_D8H11.5
simulation model 860080774009_56uF
pins: 1 P, 2 N
text: +

## 860080774011
designator C?, comment 82µF  (value not drawn)
WCAP-ATLI Aluminum Electrolytic Capacitor, Radial, THT, D8 x H16mm, 82µF, 63V; Manufacturer Part Number: 860080774011; Manufacturer: Wurth Elektronik; Capacitance Tolerance: +/-20%; Dissipation Factor: 8%; Endurance: 3000h; Leakage Current: 51.66µA; Ripple Current: 540mA; Technical Reference: ATEE160820M063DSPA7C000; Category: Aluminum Electrolytic Capacitors; Match Code: WCAP-ATLI; ComponentLink1Description: Website Link; ComponentLink1URL: https://www.we-online.com/redexpert/article/860080774011?ad; ComponentLink2Description: Datasheet Link; ComponentLink2URL: https://www.we-online.com/redexpert/spec/860080774011?ad; Mount: Through Hole; Operating Temperature Max: 105°C; Operating Temperature Min: -55°C; Packaging: Ammo Pack; Height: 16mm; Diameter: 8mm; Capacitance: 82µF; Rated Voltage (DC): 63V
footprint WCAP-ATLI_D8H16
simulation model 860080774011_82uF
pins: 1 P, 2 N
text: +

## 860080774014
designator C?, comment 120µF  (value not drawn)
WCAP-ATLI Aluminum Electrolytic Capacitor, Radial, THT, D8 x H20mm, 120µF, 63V; Manufacturer Part Number: 860080774014; Manufacturer: Wurth Elektronik; Capacitance Tolerance: +/-20%; Dissipation Factor: 8%; Endurance: 3000h; Leakage Current: 75.6µA; Ripple Current: 790mA; Technical Reference: ATEE200121M063DSPA7C000; Category: Aluminum Electrolytic Capacitors; Match Code: WCAP-ATLI; ComponentLink1Description: Website Link; ComponentLink1URL: https://www.we-online.com/redexpert/article/860080774014?ad; ComponentLink2Description: Datasheet Link; ComponentLink2URL: https://www.we-online.com/redexpert/spec/860080774014?ad; Mount: Through Hole; Operating Temperature Max: 105°C; Operating Temperature Min: -55°C; Packaging: Ammo Pack; Height: 20mm; Diameter: 8mm; Capacitance: 120µF; Rated Voltage (DC): 63V
footprint WCAP-ATLI_D8H20
simulation model 860080774014_120uF
pins: 1 P, 2 N
text: +

## 860080775010
designator C?, comment 68µF  (value not drawn)
WCAP-ATLI Aluminum Electrolytic Capacitor, Radial, THT, D10 x H12.5mm, 68µF, 63V; Manufacturer Part Number: 860080775010; Manufacturer: Wurth Elektronik; Capacitance Tolerance: +/-20%; Dissipation Factor: 8%; Endurance: 5000h; Leakage Current: 42.84µA; Ripple Current: 500mA; Technical Reference: ATEF125680M063DSPA9E000; Category: Aluminum Electrolytic Capacitors; Match Code: WCAP-ATLI; ComponentLink1Description: Website Link; ComponentLink1URL: https://www.we-online.com/redexpert/article/860080775010?ad; ComponentLink2Description: Datasheet Link; ComponentLink2URL: https://www.we-online.com/redexpert/spec/860080775010?ad; Mount: Through Hole; Operating Temperature Max: 105°C; Operating Temperature Min: -55°C; Packaging: Ammo Pack; Height: 12.5mm; Diameter: 10mm; Capacitance: 68µF; Rated Voltage (DC): 63V
footprint WCAP-ATLI_D10H12.5
simulation model 860080775010_68uF
pins: 1 P, 2 N
text: +

## 860080775012
designator C?, comment 82µF  (value not drawn)
WCAP-ATLI Aluminum Electrolytic Capacitor, Radial, THT, D10 x H12.5mm, 82µF, 63V; Manufacturer Part Number: 860080775012; Manufacturer: Wurth Elektronik; Capacitance Tolerance: +/-20%; Dissipation Factor: 8%; Endurance: 5000h; Leakage Current: 51.66µA; Ripple Current: 570mA; Technical Reference: ATEF125820M063DSPA9E000; Category: Aluminum Electrolytic Capacitors; Match Code: WCAP-ATLI; ComponentLink1Description: Website Link; ComponentLink1URL: https://www.we-online.com/redexpert/article/860080775012?ad; ComponentLink2Description: Datasheet Link; ComponentLink2URL: https://www.we-online.com/redexpert/spec/860080775012?ad; Mount: Through Hole; Operating Temperature Max: 105°C; Operating Temperature Min: -55°C; Packaging: Ammo Pack; Height: 12.5mm; Diameter: 10mm; Capacitance: 82µF; Rated Voltage (DC): 63V
footprint WCAP-ATLI_D10H12.5
simulation model 860080775012_82uF
pins: 1 P, 2 N
text: +

## 860080775013
designator C?, comment 100µF  (value not drawn)
WCAP-ATLI Aluminum Electrolytic Capacitor, Radial, THT, D10 x H12.5mm, 100µF, 63V; Manufacturer Part Number: 860080775013; Manufacturer: Wurth Elektronik; Capacitance Tolerance: +/-20%; Dissipation Factor: 8%; Endurance: 5000h; Leakage Current: 63µA; Ripple Current: 720mA; Technical Reference: ATEF125101M063DSPA9E000; Category: Aluminum Electrolytic Capacitors; Match Code: WCAP-ATLI; ComponentLink1Description: Website Link; ComponentLink1URL: https://www.we-online.com/redexpert/article/860080775013?ad; ComponentLink2Description: Datasheet Link; ComponentLink2URL: https://www.we-online.com/redexpert/spec/860080775013?ad; Mount: Through Hole; Operating Temperature Max: 105°C; Operating Temperature Min: -55°C; Packaging: Ammo Pack; Height: 12.5mm; Diameter: 10mm; Capacitance: 100µF; Rated Voltage (DC): 63V
footprint WCAP-ATLI_D10H12.5
simulation model 860080775013_100uF
pins: 1 P, 2 N
text: +

## 860080775015
designator C?, comment 120µF  (value not drawn)
WCAP-ATLI Aluminum Electrolytic Capacitor, Radial, THT, D10 x H16mm, 120µF, 63V; Manufacturer Part Number: 860080775015; Manufacturer: Wurth Elektronik; Capacitance Tolerance: +/-20%; Dissipation Factor: 8%; Endurance: 5000h; Leakage Current: 75.6µA; Ripple Current: 835mA; Technical Reference: ATEF160121M063DSPAAE000; Category: Aluminum Electrolytic Capacitors; Match Code: WCAP-ATLI; ComponentLink1Description: Website Link; ComponentLink1URL: https://www.we-online.com/redexpert/article/860080775015?ad; ComponentLink2Description: Datasheet Link; ComponentLink2URL: https://www.we-online.com/redexpert/spec/860080775015?ad; Mount: Through Hole; Operating Temperature Max: 105°C; Operating Temperature Min: -55°C; Packaging: Ammo Pack; Height: 16mm; Diameter: 10mm; Capacitance: 120µF; Rated Voltage (DC): 63V
footprint WCAP-ATLI_D10H16
simulation model 860080775015_120uF
pins: 1 P, 2 N
text: +

## 860080775016
designator C?, comment 150µF  (value not drawn)
WCAP-ATLI Aluminum Electrolytic Capacitor, Radial, THT, D10 x H16mm, 150µF, 63V; Manufacturer Part Number: 860080775016; Manufacturer: Wurth Elektronik; Capacitance Tolerance: +/-20%; Dissipation Factor: 8%; Endurance: 5000h; Leakage Current: 94.5µA; Ripple Current: 900mA; Technical Reference: ATEF160151M063DSPAAE000; Category: Aluminum Electrolytic Capacitors; Match Code: WCAP-ATLI; ComponentLink1Description: Website Link; ComponentLink1URL: https://www.we-online.com/redexpert/article/860080775016?ad; ComponentLink2Description: Datasheet Link; ComponentLink2URL: https://www.we-online.com/redexpert/spec/860080775016?ad; Mount: Through Hole; Operating Temperature Max: 105°C; Operating Temperature Min: -55°C; Packaging: Ammo Pack; Height: 16mm; Diameter: 10mm; Capacitance: 150µF; Rated Voltage (DC): 63V
footprint WCAP-ATLI_D10H16
simulation model 860080775016_150uF
pins: 1 P, 2 N
text: +

## 860080775017
designator C?, comment 180µF  (value not drawn)
WCAP-ATLI Aluminum Electrolytic Capacitor, Radial, THT, D10 x H20mm, 180µF, 63V; Manufacturer Part Number: 860080775017; Manufacturer: Wurth Elektronik; Capacitance Tolerance: +/-20%; Dissipation Factor: 8%; Endurance: 5000h; Leakage Current: 113.4µA; Ripple Current: 1200mA; Technical Reference: ATEF200181M063DSPAAE000; Category: Aluminum Electrolytic Capacitors; Match Code: WCAP-ATLI; ComponentLink1Description: Website Link; ComponentLink1URL: https://www.we-online.com/redexpert/article/860080775017?ad; ComponentLink2Description: Datasheet Link; ComponentLink2URL: https://www.we-online.com/redexpert/spec/860080775017?ad; Mount: Through Hole; Operating Temperature Max: 105°C; Operating Temperature Min: -55°C; Packaging: Ammo Pack; Height: 20mm; Diameter: 10mm; Capacitance: 180µF; Rated Voltage (DC): 63V
footprint WCAP-ATLI_D10H20
simulation model 860080775017_180uF
pins: 1 P, 2 N
text: +

## 860080775018
designator C?, comment 220µF  (value not drawn)
WCAP-ATLI Aluminum Electrolytic Capacitor, Radial, THT, D10 x H25mm, 220µF, 63V; Manufacturer Part Number: 860080775018; Manufacturer: Wurth Elektronik; Capacitance Tolerance: +/-20%; Dissipation Factor: 8%; Endurance: 5000h; Leakage Current: 138.6µA; Ripple Current: 1315mA; Technical Reference: ATEF250221M063DSPAAE000; Category: Aluminum Electrolytic Capacitors; Match Code: WCAP-ATLI; ComponentLink1Description: Website Link; ComponentLink1URL: https://www.we-online.com/redexpert/article/860080775018?ad; ComponentLink2Description: Datasheet Link; ComponentLink2URL: https://www.we-online.com/redexpert/spec/860080775018?ad; Mount: Through Hole; Operating Temperature Max: 105°C; Operating Temperature Min: -55°C; Packaging: Ammo Pack; Height: 25mm; Diameter: 10mm; Capacitance: 220µF; Rated Voltage (DC): 63V
footprint WCAP-ATLI_D10H25
simulation model 860080775018_220uF
pins: 1 P, 2 N
text: +

## 860080775020
designator C?, comment 330µF  (value not drawn)
WCAP-ATLI Aluminum Electrolytic Capacitor, Radial, THT, D10 x H30mm, 330µF, 63V; Manufacturer Part Number: 860080775020; Manufacturer: Wurth Elektronik; Capacitance Tolerance: +/-20%; Dissipation Factor: 8%; Endurance: 5000h; Leakage Current: 207.9µA; Ripple Current: 1750mA; Technical Reference: ATEF300331M063DSPAAE000; Category: Aluminum Electrolytic Capacitors; Match Code: WCAP-ATLI; ComponentLink1Description: Website Link; ComponentLink1URL: https://www.we-online.com/redexpert/article/860080775020?ad; ComponentLink2Description: Datasheet Link; ComponentLink2URL: https://www.we-online.com/redexpert/spec/860080775020?ad; Mount: Through Hole; Operating Temperature Max: 105°C; Operating Temperature Min: -55°C; Packaging: Ammo Pack; Height: 30mm; Diameter: 10mm; Capacitance: 330µF; Rated Voltage (DC): 63V
footprint WCAP-ATLI_D10H30
simulation model 860080775020_330uF
pins: 1 P, 2 N
text: +

## 860080778019
designator C?, comment 270µF  (value not drawn)
WCAP-ATLI Aluminum Electrolytic Capacitor, Radial, THT, D13 x H20mm, 270µF, 63V; Manufacturer Part Number: 860080778019; Manufacturer: Wurth Elektronik; Capacitance Tolerance: +/-20%; Dissipation Factor: 8%; Endurance: 5000h; Leakage Current: 170.1µA; Ripple Current: 1400mA; Technical Reference: ATEI200271M063DSPACE000; Category: Aluminum Electrolytic Capacitors; Match Code: WCAP-ATLI; ComponentLink1Description: Website Link; ComponentLink1URL: https://www.we-online.com/redexpert/article/860080778019?ad; ComponentLink2Description: Datasheet Link; ComponentLink2URL: https://www.we-online.com/redexpert/spec/860080778019?ad; Mount: Through Hole; Operating Temperature Max: 105°C; Operating Temperature Min: -55°C; Packaging: Ammo Pack; Height: 20mm; Diameter: 13mm; Capacitance: 270µF; Rated Voltage (DC): 63V
footprint WCAP-ATLI_D13H20
simulation model 860080778019_270uF
pins: 1 P, 2 N
text: +

## 860080778021
designator C?, comment 330µF  (value not drawn)
WCAP-ATLI Aluminum Electrolytic Capacitor, Radial, THT, D13 x H25mm, 330µF, 63V; Manufacturer Part Number: 860080778021; Manufacturer: Wurth Elektronik; Capacitance Tolerance: +/-20%; Dissipation Factor: 8%; Endurance: 5000h; Leakage Current: 207.9µA; Ripple Current: 1870mA; Technical Reference: ATEI250331M063DSPACE000; Category: Aluminum Electrolytic Capacitors; Match Code: WCAP-ATLI; ComponentLink1Description: Website Link; ComponentLink1URL: https://www.we-online.com/redexpert/article/860080778021?ad; ComponentLink2Description: Datasheet Link; ComponentLink2URL: https://www.we-online.com/redexpert/spec/860080778021?ad; Mount: Through Hole; Operating Temperature Max: 105°C; Operating Temperature Min: -55°C; Packaging: Ammo Pack; Height: 25mm; Diameter: 13mm; Capacitance: 330µF; Rated Voltage (DC): 63V
footprint WCAP-ATLI_D13H25
simulation model 860080778021_330uF
pins: 1 P, 2 N
text: +

## 860080778022
designator C?, comment 390µF  (value not drawn)
WCAP-ATLI Aluminum Electrolytic Capacitor, Radial, THT, D13 x H25mm, 390µF, 63V; Manufacturer Part Number: 860080778022; Manufacturer: Wurth Elektronik; Capacitance Tolerance: +/-20%; Dissipation Factor: 8%; Endurance: 5000h; Leakage Current: 245.7µA; Ripple Current: 1920mA; Technical Reference: ATEI250391M063DSPACE000; Category: Aluminum Electrolytic Capacitors; Match Code: WCAP-ATLI; ComponentLink1Description: Website Link; ComponentLink1URL: https://www.we-online.com/redexpert/article/860080778022?ad; ComponentLink2Description: Datasheet Link; ComponentLink2URL: https://www.we-online.com/redexpert/spec/860080778022?ad; Mount: Through Hole; Operating Temperature Max: 105°C; Operating Temperature Min: -55°C; Packaging: Ammo Pack; Height: 25mm; Diameter: 13mm; Capacitance: 390µF; Rated Voltage (DC): 63V
footprint WCAP-ATLI_D13H25
simulation model 860080778022_390uF
pins: 1 P, 2 N
text: +

## 860080778023
designator C?, comment 470µF  (value not drawn)
WCAP-ATLI Aluminum Electrolytic Capacitor, Radial, THT, D13 x H30mm, 470µF, 63V; Manufacturer Part Number: 860080778023; Manufacturer: Wurth Elektronik; Capacitance Tolerance: +/-20%; Dissipation Factor: 8%; Endurance: 5000h; Leakage Current: 296.1µA; Ripple Current: 2225mA; Technical Reference: ATEI300471M063DSPACE000; Category: Aluminum Electrolytic Capacitors; Match Code: WCAP-ATLI; ComponentLink1Description: Website Link; ComponentLink1URL: https://www.we-online.com/redexpert/article/860080778023?ad; ComponentLink2Description: Datasheet Link; ComponentLink2URL: https://www.we-online.com/redexpert/spec/860080778023?ad; Mount: Through Hole; Operating Temperature Max: 105°C; Operating Temperature Min: -55°C; Packaging: Ammo Pack; Height: 30mm; Diameter: 13mm; Capacitance: 470µF; Rated Voltage (DC): 63V
footprint WCAP-ATLI_D13H30
simulation model 860080778023_470uF
pins: 1 P, 2 N
text: +